# EAGLE library part 804-303/000-005 (library con-wago_804)
Serie 804, Stand: 01.01.2012. Die jeweils aktuellen Daten zu diesem Artikel finden Sie in unserem Produktkatalog, den Sie unter www.wago.com einsehen können. As of: 01/01/2012. Please find the newest data for this article in our product catalogue, which can be viewed under www.wago.com.
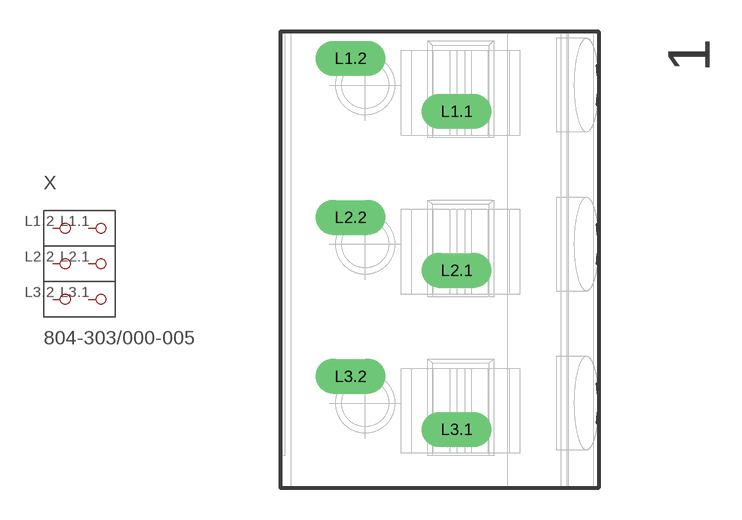
[diagram p38: symbol with the pads of P-804-303; footprint P-804-303]

Designator prefix X

## 804-303/000-005  [P-804-303]
L1.1  P1.1
L1.2  P1.2
L2.1  P2.1
L2.2  P2.2
L3.1  P3.1
L3.2  P3.2

## Footprint P-804-303 (pad centres in mm)
drill 1.1 long: L1.1 0.8,7; L1.2 -4.2,9.5; L2.1 0.8,-0.5; L2.2 -4.2,2; L3.1 0.8,-8; L3.2 -4.2,-5.5